# Altium footprint library 4UCON_JST_HORIZ_TH_2PIN.PcbLib: 1 footprints
Each footprint in its own frame and in the unit in brackets; x right, y up, seen from the top. Pads: shape width x height; smd on the part's side, far side on the other; paste and mask are expansions set on the pad; w line width, h text height; cw(c..) or ccw(c..) is an arc to the next point about the centre after c.
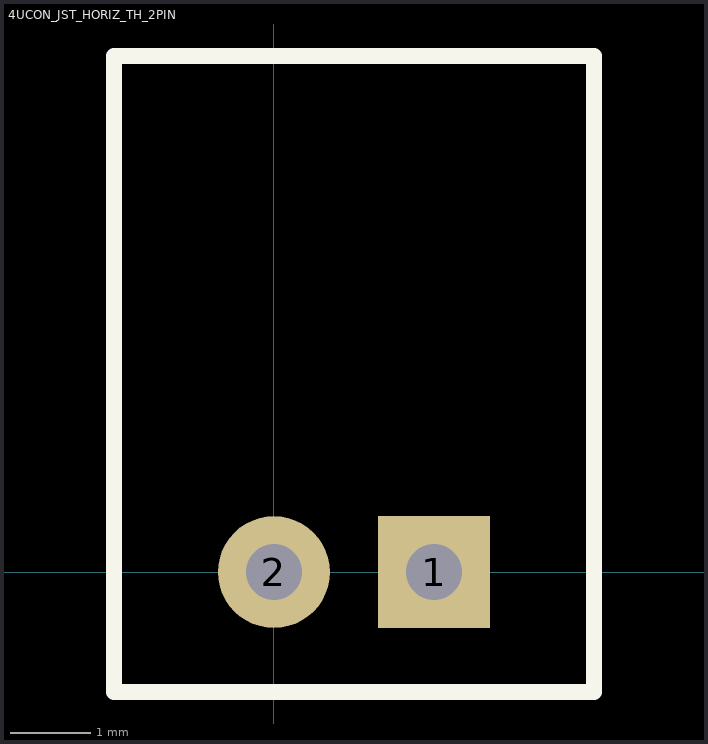
[diagram p0: the footprint, top view; thin cyan lines are the x and y axes]

## 4UCON_JST_HORIZ_TH_2PIN [mm]
pads (2):
  rect 1.4x1.4 hole 0.7: 1(2,0)
  round 1.4 hole 0.7: 2(0,0)
Top Overlay:
  lines w0.2: -2,-1.5 4,-1.5 4,6.45 -2,6.45 -2,-1.5